# Altium footprint library NX3225GA25MHZEXS00ACG06750.PcbLib: 1 footprints
Each footprint in its own frame and in the unit in brackets; x right, y up, seen from the top. Pads: shape width x height; smd on the part's side, far side on the other; paste and mask are expansions set on the pad; w line width, h text height; cw(c..) or ccw(c..) is an arc to the next point about the centre after c.
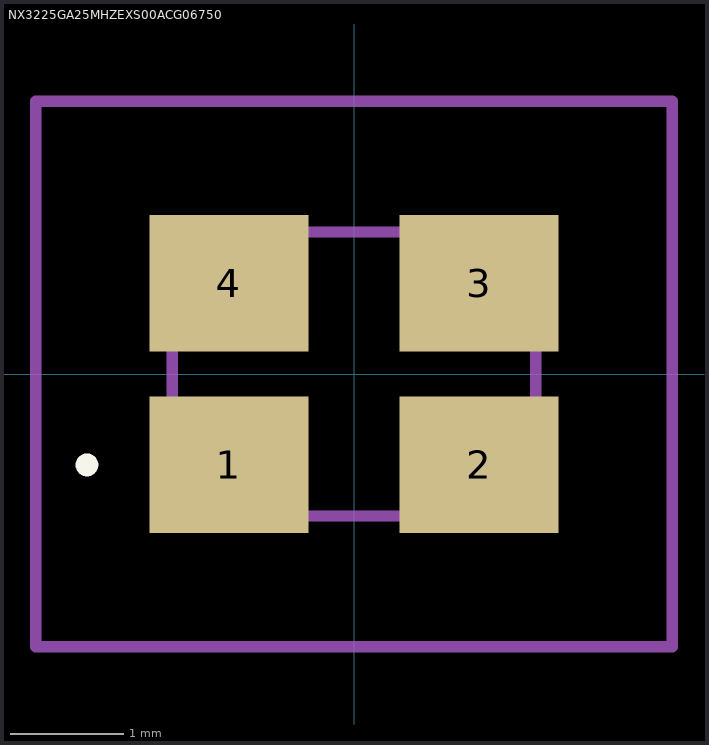
[diagram p0: the footprint, top view; thin cyan lines are the x and y axes]

## NX3225GA25MHZEXS00ACG06750 [mm]
pads (4):
  rect 1.4x1.2 smd: 1(-1.1,-0.8) 2(1.1,-0.8) 3(1.1,0.8) 4(-1.1,0.8)
Top Overlay:
  lines w0.1: -2.4,-0.8 -2.4,-0.8 ; -2.4,-0.8 ccw(c-2.35,-0.8) -2.3,-0.8 ; -2.4,-0.8 cw(c-2.35,-0.8) -2.3,-0.8 ; -2.3,-0.8 -2.3,-0.8
Mechanical 15:
  lines w0.1: -1.6,-1.25 1.6,-1.25 1.6,1.25 -1.6,1.25 -1.6,-1.25
Mechanical 20:
  lines w0.1: -2.8,-2.4 2.8,-2.4 2.8,2.4 -2.8,2.4 -2.8,-2.4